# Altium footprint library SG__PCB_SMD_Inductors.PcbLib: 41 footprints (part 1 of 3)
Each footprint in its own frame and in the unit in brackets; x right, y up, seen from the top. Pads: shape width x height; smd on the part's side, far side on the other; paste and mask are expansions set on the pad; w line width, h text height; cw(c..) or ccw(c..) is an arc to the next point about the centre after c.
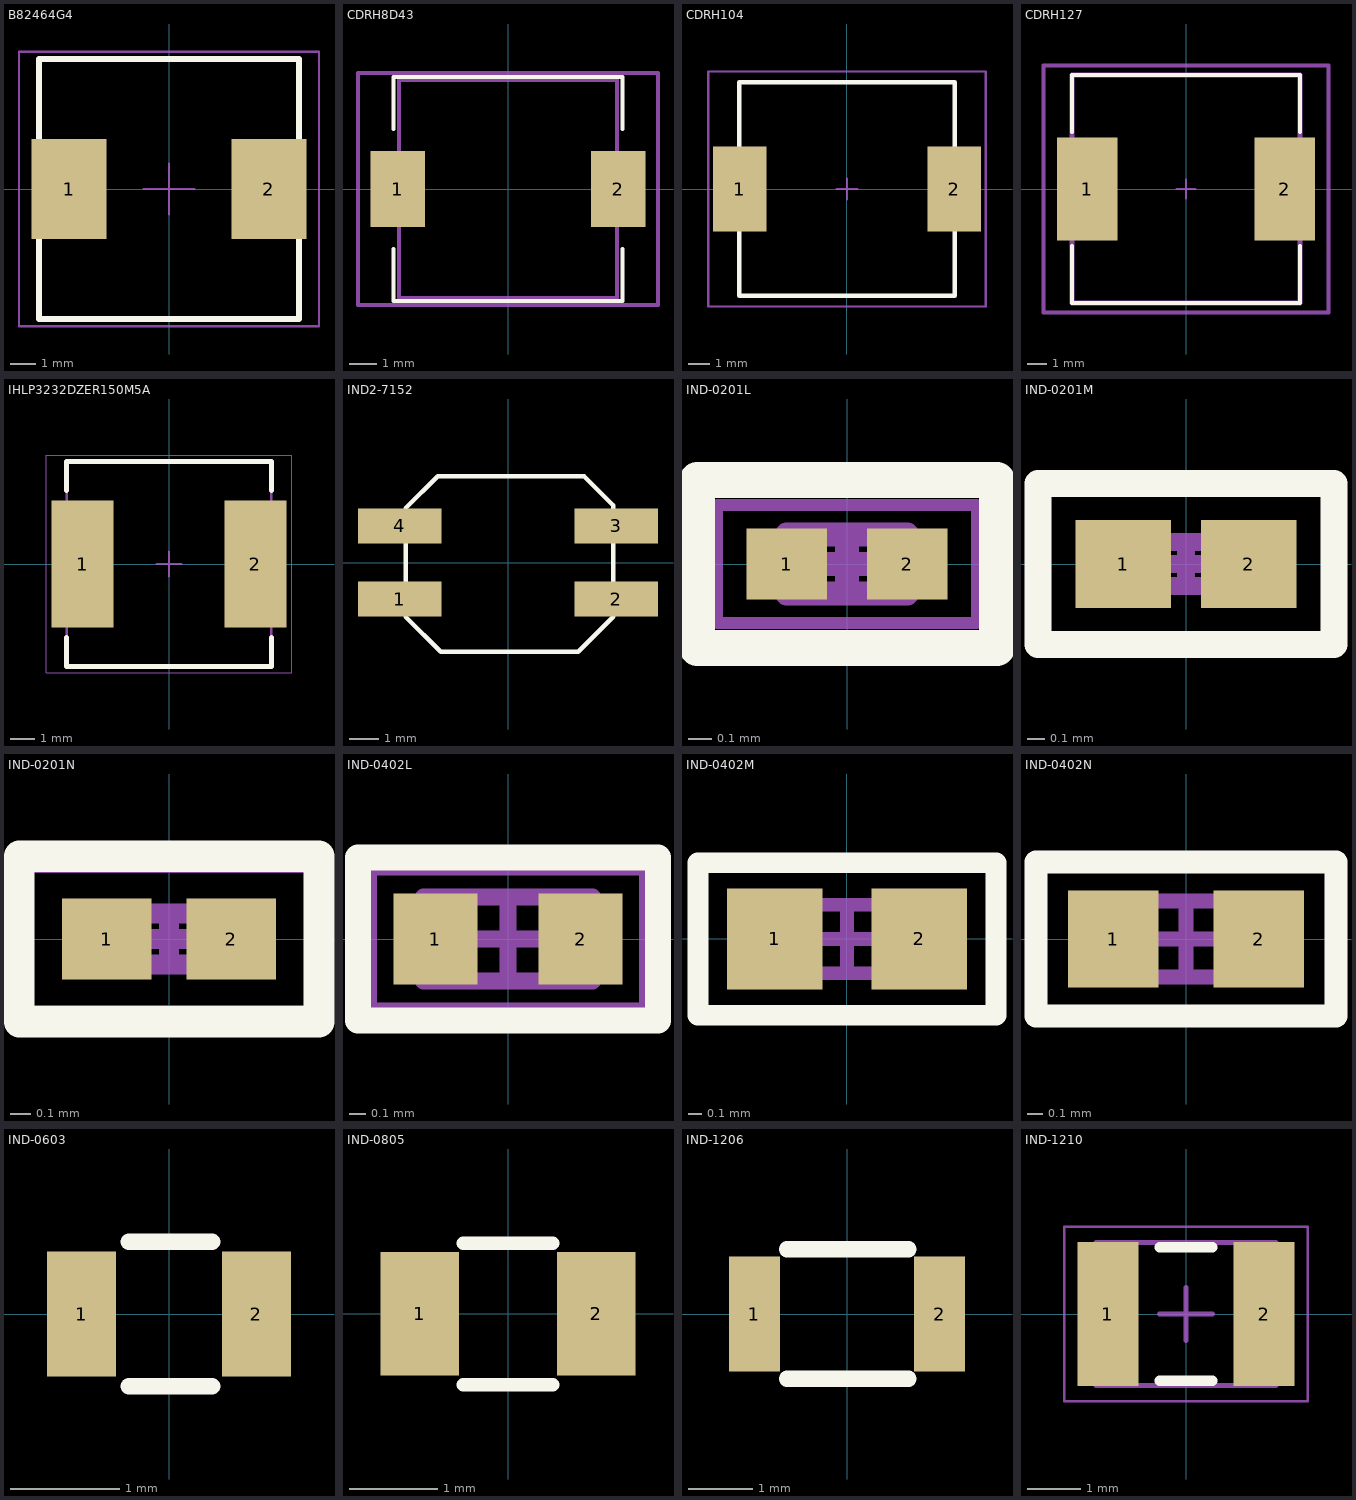
[diagram p0: the footprints below, top view; thin cyan lines are the x and y axes]

## B82464G4 [mm] "SMD Inductor 10x10 series"
pads (2):
  rect 3x4 smd: 1(-4,0) 2(4,0)
Top Overlay:
  lines w0.254: -5.2,-5.2 5.2,-5.2 5.2,5.2 -5.2,5.2 -5.2,-5.2
Top Courtyard:
  lines w0.1: -1,0 1,0 ; 0,-1 0,1 ; -6,-5.5 6,-5.5 6,5.5 -6,5.5 -6,-5.5
3D body "B82464G4472M000.STEP": height 4.8, standoff 0, extent -5.2,-5.2 5.2,5.2

## CDRH8D43 [mm] "Inductor 8.3*8.3*4.5"
pads (2):
  rect 2x2.8 smd: 1(-4.05,0) 2(4.05,0)
Top Overlay:
  lines w0.15: -4.2,-2.2 -4.2,-4.1 4.2,-4.1 4.2,-2.2 ; -4.2,2.2 -4.2,4.1 4.2,4.1 4.2,2.2
Top Assembly:
  lines w0.15: -4,-4 -4,4 4,4 4,-4 -4,-4
Top Courtyard:
  lines w0.15: -5.5,-4.25 5.5,-4.25 5.5,4.25 -5.5,4.25 -5.5,-4.25
Top Designator:
  text ".Designator" at -3.9,-0.233 h0.8
3D body "User Library-drumCoreInductorSMT.step": height 4.5, standoff 0, extent -4.343,-4 4.343,4

## CDRH104 [mm] "Molded Inductor, 2-Leads, Body 10x10х4mm"
height 5
pads (2):
  rect 2.5x4 smd: 1(-5.025,0) 2(5.025,0)
Top Overlay:
  lines w0.2: -5.05,-1.975 -5.05,-5 5.05,-5 5.05,-1.975 ; -5.05,1.975 -5.05,5 5.05,5 5.05,1.975
Top Assembly:
  lines w0.1: -5.05,-5 -5.05,5 5.05,5 5.05,-5 -5.05,-5
Top Courtyard:
  lines w0.1: -0.5,0 0.5,0 ; 0,-0.5 0,0.5 ; -6.5,-5.5 -6.5,5.5 6.5,5.5 6.5,-5.5 -6.5,-5.5
3D body "CDRH104R.STEP": height 3.8, standoff 0, extent -5.05,-4.95 5.05,4.95

## CDRH127 [mm] "SMD Power Inductor 12x12x8mm"
pads (2):
  rect 3.2x5.4 smd: 1(-5.2,0) 2(5.2,0)
Top Overlay:
  lines w0.2: -6,-3 -6,-6 6,-6 6,-3 ; -6,3 -6,6 6,6 6,3
Top Assembly:
  lines w0.254: -6,-6 6,-6 6,6 -6,6 -6,-6
Top Courtyard:
  lines w0.1: -0.5,0 0.5,0 ; 0,-0.5 0,0.5
  lines w0.2: -7.5,-6.5 7.5,-6.5 7.5,6.5 -7.5,6.5 -7.5,-6.5
3D body "CDRH127_470M.step": height 7.42, standoff 0.01, extent -6,-6 6,6

## IHLP3232DZER150M5A [mm] "Precision Wire Wound Inductor, 2-Leads, Body 8,20x8,20mm, IPC Medium Density"
height 4
pads (2):
  rect 2.5x5.15 smd: 1(-3.5,0) 2(3.5,0)
Top Overlay:
  lines w0.2: -4.15,-2.975 -4.15,-4.15 4.15,-4.15 4.15,-2.975 ; -4.15,2.975 -4.15,4.15 4.15,4.15 4.15,2.975
Top Assembly:
  lines w0.1: -4.15,-4.15 4.15,-4.15 4.15,4.15 -4.15,4.15 -4.15,-4.15
Top Courtyard:
  lines w0.05: -4.975,-4.4 4.975,-4.4 4.975,4.4 -4.975,4.4 -4.975,-4.4
  lines w0.1: -0.5,0 0.5,0 ; 0,-0.5 0,0.5
3D body "IHLP3232DZER150M5A.step": height 4.1, standoff 0, extent -4.2,-4.1 4.2,4.1

## IND2-7152 [mm] "double ind"
pads (4):
  rect 2.85x1.2 smd paste-1 mask-0.05: 1(-3.7,-1.25) 2(3.7,-1.25) 3(3.7,1.25) 4(-3.7,1.25)
Top Overlay:
  lines w0.152: -3.5,-1.85 -2.3,-3.05 2.4,-3.05 3.6,-1.85 3.6,1.95 2.6,2.95 -2.4,2.95 -3.5,1.85 -3.5,-1.85
3D body: height 5.2, standoff 0.01, extent -3.5,-3.05 3.6,2.95

## IND-0201L [mm] "Chip Inductor, 2-Leads, Body 0,51x0,25mm, IPC High Density"
height 0.23
pads (2):
  rect 0.34x0.3 smd: 1(-0.255,0) 2(0.255,0)
Top Overlay:
  lines w0.152: -0.483,-0.356 0.635,-0.356 0.635,0.025 0.635,0.356 -0.559,0.356 -0.635,0.356 -0.635,-0.356 -0.33,-0.356
Top Assembly:
  lines w0.1: -0.255,-0.125 0.255,-0.125 0.255,0.125 -0.255,0.125 -0.255,-0.125
Top Courtyard:
  lines w0.05: -0.55,-0.25 0.55,-0.25 0.55,0.25 -0.55,0.25 -0.55,-0.25
  lines w0.1: -0.125,0 0.125,0 ; 0,-0.125 0,0.125
3D body "INDC0503X02L.step": height 0.23, standoff 0, extent -0.255,-0.125 0.255,0.125

## IND-0201M [mm] "Chip Inductor, 2-Leads, Body 0,51x0,25mm, IPC Low Density"
height 0.23
pads (2):
  rect 0.54x0.5 smd: 1(-0.355,0) 2(0.355,0)
Top Overlay:
  lines w0.152: -0.178,-0.457 0.838,-0.457 0.838,0.457 0.127,0.457 -0.838,0.457 -0.838,-0.203 -0.838,-0.457 -0.152,-0.457
Top Assembly:
  lines w0.1: -0.255,-0.125 -0.255,0.125 0.255,0.125 0.255,-0.125 -0.255,-0.125
Top Courtyard:
  lines w0.05: -0.85,-0.45 -0.85,0.45 0.85,0.45 0.85,-0.45 -0.85,-0.45
  lines w0.1: -0.125,0 0.125,0 ; 0,-0.125 0,0.125
3D body "INDC0503X02M.step": height 0.23, standoff 0, extent -0.255,-0.125 0.255,0.125

## IND-0201N [mm] "Chip Inductor, 2-Leads, Body 0,51x0,25mm, IPC Medium Density"
height 0.23
pads (2):
  rect 0.44x0.4 smd: 1(-0.305,0) 2(0.305,0)
Top Overlay:
  lines w0.152: -0.025,-0.406 0.737,-0.406 0.737,0.406 -0.737,0.406 -0.737,-0.406 0.076,-0.406
Top Assembly:
  lines w0.1: -0.255,-0.125 -0.255,0.125 0.255,0.125 0.255,-0.125 -0.255,-0.125
Top Courtyard:
  lines w0.05: -0.7,-0.35 -0.7,0.35 0.7,0.35 0.7,-0.35 -0.7,-0.35
  lines w0.1: -0.125,0 0.125,0 ; 0,-0.125 0,0.125
3D body "INDC0503X02N.step": height 0.23, standoff 0, extent -0.255,-0.125 0.255,0.125

## IND-0402L [mm] "Chip Capacitor, 2-Leads, Body 1,00x0,50mm, IPC High Density"
height 0.55
pads (2):
  rect 0.5x0.54 smd: 1(-0.43,0) 2(0.43,0)
Top Overlay:
  lines w0.152: -0.432,-0.483 0.889,-0.483 0.889,0.483 -0.889,0.483 -0.889,-0.483 -0.381,-0.483
Top Assembly:
  lines w0.1: -0.5,-0.25 0.5,-0.25 0.5,0.25 -0.5,0.25 -0.5,-0.25
Top Courtyard:
  lines w0.05: -0.8,-0.4 0.8,-0.4 0.8,0.4 -0.8,0.4 -0.8,-0.4
  lines w0.1: -0.25,0 0.25,0 ; 0,-0.25 0,0.25
3D body: height 0.5, standoff 0, extent -0.5,-0.25 0.5,0.25

## IND-0402M [mm] "Chip Capacitor, 2-Leads, Body 1,00x0,50mm, IPC Low Density"
height 0.55
pads (2):
  rect 0.7x0.74 smd: 1(-0.53,0) 2(0.53,0)
Top Overlay:
  lines w0.152: -0.305,-0.559 1.092,-0.559 1.092,0.559 -1.092,0.559 -1.092,-0.559 -0.279,-0.559
Top Assembly:
  lines w0.1: -0.5,-0.25 -0.5,0.25 0.5,0.25 0.5,-0.25 -0.5,-0.25
Top Courtyard:
  lines w0.05: -1.1,-0.6 -1.1,0.6 1.1,0.6 1.1,-0.6 -1.1,-0.6
  lines w0.1: -0.25,0 0.25,0 ; 0,-0.25 0,0.25
3D body: height 0.5, standoff 0, extent -0.5,-0.25 0.5,0.25

## IND-0402N [mm] "Chip Capacitor, 2-Leads, Body 1,00x0,50mm, IPC Medium Density"
height 0.55
pads (2):
  rect 0.6x0.64 smd: 1(-0.48,0) 2(0.48,0)
Top Overlay:
  lines w0.152: -0.33,-0.508 0.991,-0.508 0.991,0.508 -0.991,0.508 -0.991,-0.508 -0.279,-0.508
Top Assembly:
  lines w0.1: -0.5,-0.25 -0.5,0.25 0.5,0.25 0.5,-0.25 -0.5,-0.25
Top Courtyard:
  lines w0.05: -0.95,-0.5 -0.95,0.5 0.95,0.5 0.95,-0.5 -0.95,-0.5
  lines w0.1: -0.25,0 0.25,0 ; 0,-0.25 0,0.25
3D body: height 0.5, standoff 0, extent -0.5,-0.25 0.5,0.25

## IND-0603 [mm]
pads (2):
  rect 0.635x1.143 smd mask+0.05: 1(-0.8,0) 2(0.8,0)
Top Overlay:
  lines w0.152: -0.368,-0.66 0.394,-0.66 ; -0.368,0.66 0.394,0.66
3D body "ind0603.stp": height 0.78, standoff -0.02, extent -0.825,-0.381 0.775,0.419

## IND-0805 [mil]
pads (2):
  rect 35x55 smd mask+1.97: 1(-39.37,0) 2(39.37,0)
Top Overlay:
  lines w6: -20,-31.61 20,-31.61 ; -20,31.39 20,31.39
3D body "ind0805.step": height 37.4, standoff 0, extent -41.37,-23.23 37.37,24.01

## IND-1206 [mm]
pads (2):
  rect 0.8x1.8 smd mask+0.05: 1(-1.45,0) 2(1.45,0)
Top Overlay:
  lines w0.254: -0.942,-1.016 0.963,-1.016 ; -0.942,1.016 0.963,1.016
3D body "ind1206.step": height 1.3, standoff 0, extent -1.628,-0.8 1.572,0.8

## IND-1210 [mm] "Chip Inductor, 2-Leads, Body 3,20x2,50mm, IPC Medium Density"
height 1.35
pads (2):
  rect 1.16x2.72 smd: 1(-1.475,0) 2(1.475,0)
Top Overlay:
  lines w0.2: -0.5,-1.26 0.5,-1.26 ; -0.5,1.26 0.5,1.26
Top Assembly:
  lines w0.1: -1.7,-1.35 1.7,-1.35 1.7,1.35 -1.7,1.35 -1.7,-1.35
Top Courtyard:
  lines w0.05: -2.3,-1.65 2.3,-1.65 2.3,1.65 -2.3,1.65 -2.3,-1.65
  lines w0.1: -0.5,0 0.5,0 ; 0,-0.5 0,0.5
3D body "IND-1210.step": height 1.35, standoff 0, extent -1.7,-1.35 1.7,1.35